# Altium schematic symbol library Transistor.SchLib: 2 symbols
Pins are listed as number, name and electrical type; pins without a type are passive.

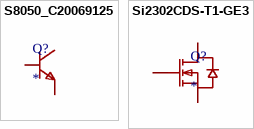
[diagram p0: symbols S8050_C20069125 to Si2302CDS-T1-GE3]

## S8050_C20069125
designator Q?
footprint SOT-23-3_L2.9-W1.3-P1.90-LS2.3-BR
pins: 1 B, 2 E

## Si2302CDS-T1-GE3
designator Q?
footprint SOT-23_L2.9-W1.3-P1.90-LS2.4-BR
pins: 1 G, 2 S, 3 D